# EAGLE library part 14 (library Erni-MicroStack)
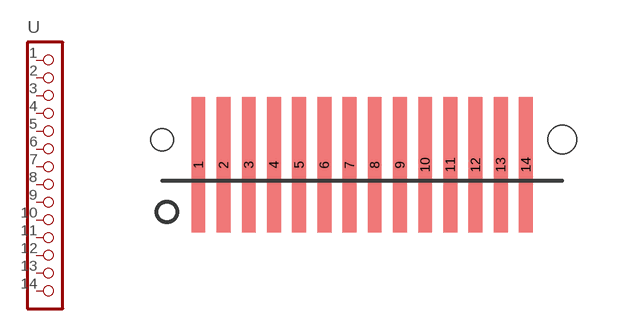
[diagram p4: symbol with the pads of 14X1; footprint 14X1]

Designator prefix -

## 14  [14X1]
1  1
2  2
3  3  pas
4  4  pas
5  5  pas
6  6  pas
7  7  pas
8  8  pas
9  9  pas
10  10  pas
11  11  pas
12  12  pas
13  13  pas
14  14  pas

## Footprint 14X1 (pad centres in mm)
smd 0.44 x 4.3: 1 -5.2,0.5; 2 -4.4,0.5; 3 -3.6,0.5; 4 -2.8,0.5; 5 -2,0.5; 6 -1.2,0.5; 7 -0.4,0.5; 8 0.4,0.5; 9 1.2,0.5; 10 2,0.5; 11 2.8,0.5; 12 3.6,0.5; 13 4.4,0.5; 14 5.2,0.5
hole 0.7 at -6.35,1.3
hole 0.9 at 6.35,1.3